# Altium footprint library Panasonic.PcbLib: 90 footprints (part 2 of 6)
Each footprint in its own frame and in the unit in brackets; x right, y up, seen from the top. Pads: shape width x height; smd on the part's side, far side on the other; paste and mask are expansions set on the pad; w line width, h text height; cw(c..) or ccw(c..) is an arc to the next point about the centre after c.
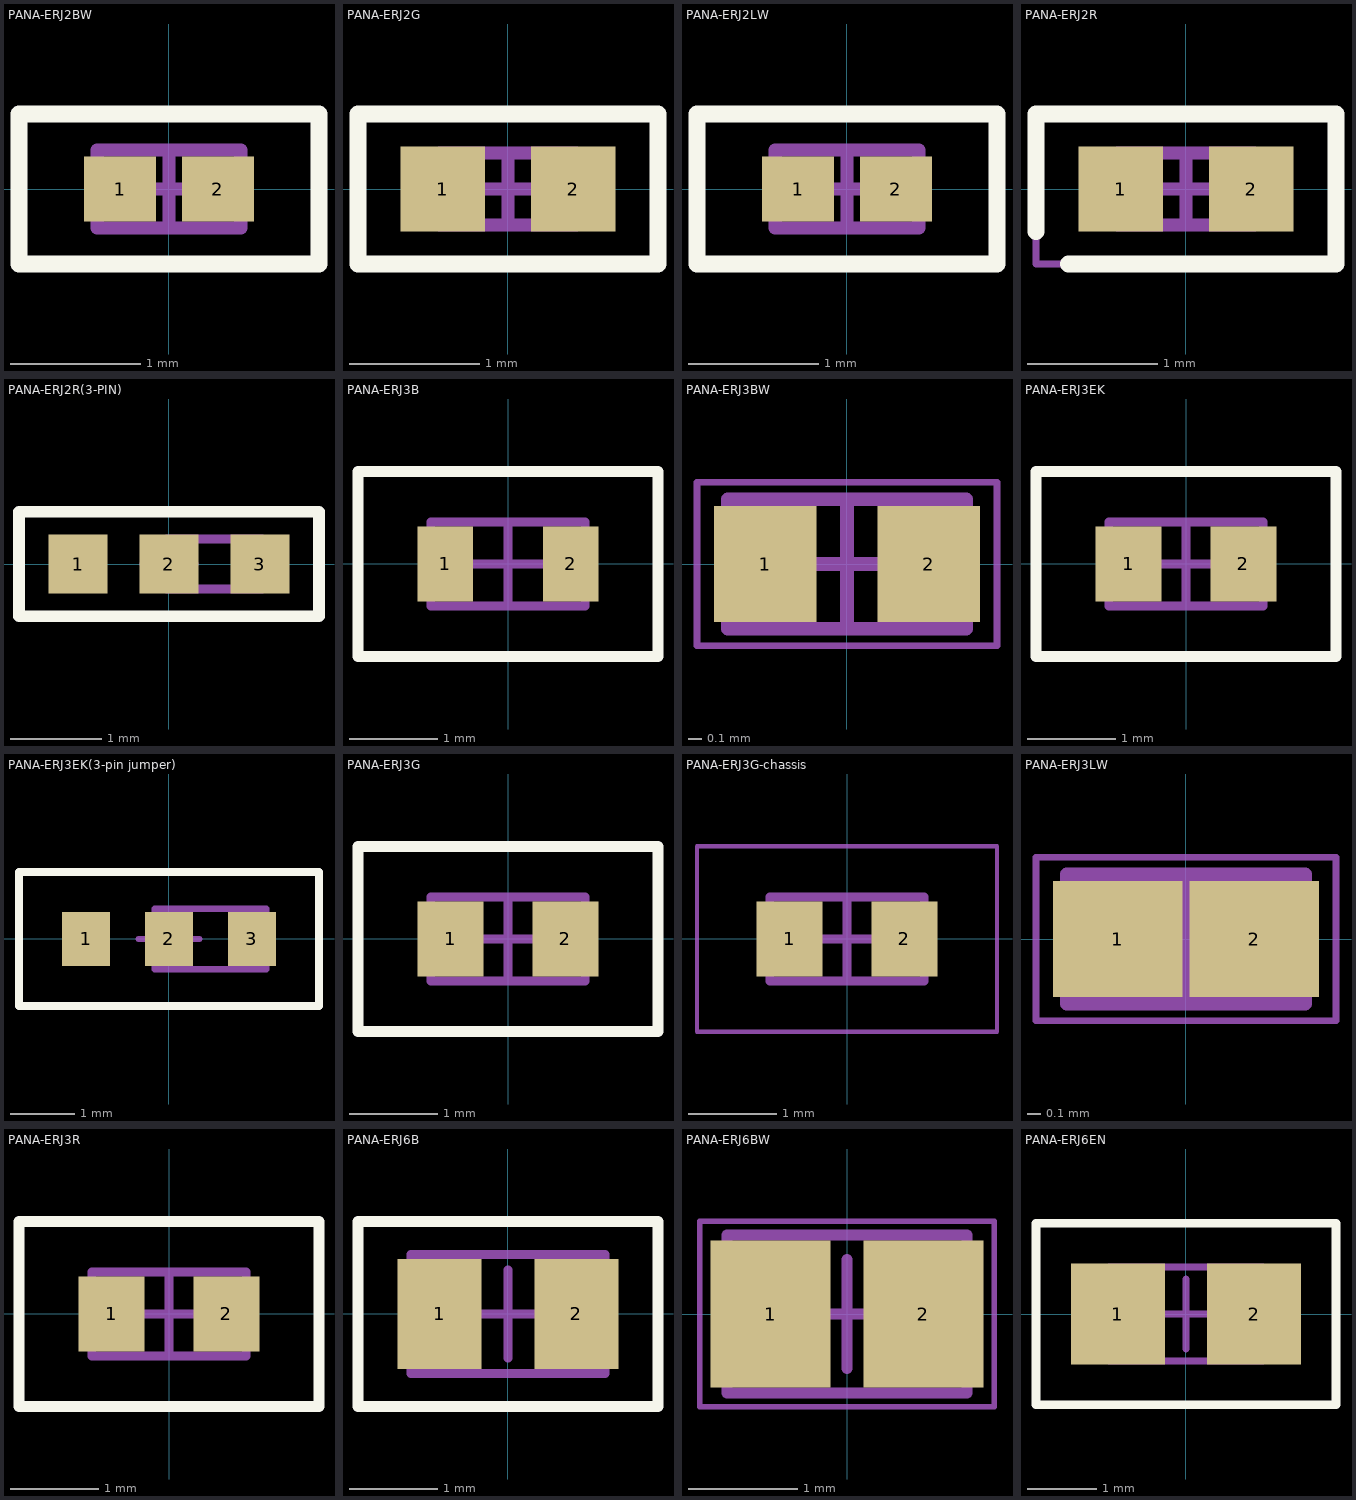
[diagram p1: the footprints below, top view; thin cyan lines are the x and y axes]

## PANA-ERJ2BW [mm] "Chip Resistor, 2-Leads, Body 1.00x0.52mm, IPC High Density"
height 0.4
pads (2):
  rect 0.55x0.5 smd: 1(-0.375,0) 2(0.375,0)
Top Overlay:
  lines w0.127: -1.15,-0.575 1.15,-0.575 1.15,0.575 -1.15,0.575 -1.15,-0.575
Assembly Top:
  lines w0.1: -0.55,-0.3 0.55,-0.3 0.55,0.3 -0.55,0.3 -0.55,-0.3
Courtyard Top:
  lines w0.05: -1.15,-0.575 -1.15,0.575 1.15,0.575 1.15,-0.575 -1.15,-0.575
  lines w0.1: -0.3,0 0.3,0 ; 0,-0.3 0,0.3
3D body: height 0.4, standoff 0, extent -0.55,-0.3 -0.31,0.3
3D body: height 0.4, standoff 0, extent -0.31,-0.3 0.31,0.3
3D body: height 0.4, standoff 0, extent 0.31,-0.3 0.55,0.3

## PANA-ERJ2G [mm] "Chip Resistor, 2-Leads, Body 1.00x0.50mm, IPC Low Density"
height 0.4
pads (2):
  rect 0.65x0.65 smd: 1(-0.5,0) 2(0.5,0)
Top Overlay:
  lines w0.127: -1.15,-0.575 1.15,-0.575 1.15,0.575 -1.15,0.575 -1.15,-0.575
Assembly Top:
  lines w0.1: -0.525,-0.275 -0.525,0.275 0.525,0.275 0.525,-0.275 -0.525,-0.275
Courtyard Top:
  lines w0.05: -1.15,-0.575 -1.15,0.575 1.15,0.575 1.15,-0.575 -1.15,-0.575
  lines w0.1: -0.275,0 0.275,0 ; 0,-0.275 0,0.275
3D body "PANA-ERJ2G2.step": height 0.4, standoff 0, extent -0.525,-0.275 0.525,0.275

## PANA-ERJ2LW [mm] "Chip Resistor, 2-Leads, Body 1.00x0.52mm, IPC High Density"
height 0.45
pads (2):
  rect 0.55x0.5 smd: 1(-0.375,0) 2(0.375,0)
Top Overlay:
  lines w0.127: -1.15,-0.575 1.15,-0.575 1.15,0.575 -1.15,0.575 -1.15,-0.575
Assembly Top:
  lines w0.1: -0.55,-0.3 0.55,-0.3 0.55,0.3 -0.55,0.3 -0.55,-0.3
Courtyard Top:
  lines w0.05: -1.15,-0.575 -1.15,0.575 1.15,0.575 1.15,-0.575 -1.15,-0.575
  lines w0.1: -0.3,0 0.3,0 ; 0,-0.3 0,0.3
3D body: height 0.45, standoff 0, extent -0.55,-0.3 -0.3,0.3
3D body: height 0.45, standoff 0, extent 0.3,-0.3 0.55,0.3
3D body: height 0.45, standoff 0, extent -0.3,-0.3 0.3,0.3

## PANA-ERJ2R [mm] "Chip Resistor, 2-Leads, Body 1.00x0.50mm, IPC Low Density"
height 0.4
pads (2):
  rect 0.65x0.65 smd: 1(-0.5,0) 2(0.5,0)
Top Overlay:
  lines w0.127: -1.15,-0.329 -1.15,0.575 1.15,0.575 1.15,-0.575 -0.904,-0.575
Assembly Top:
  lines w0.1: -0.525,-0.275 -0.525,0.275 0.525,0.275 0.525,-0.275 -0.525,-0.275
Courtyard Top:
  lines w0.05: -1.15,-0.575 -1.15,0.575 1.15,0.575 1.15,-0.575 -1.15,-0.575
  lines w0.1: -0.275,0 0.275,0 ; 0,-0.275 0,0.275
3D body "PANA-ERJ2R2.step": height 0.4, standoff 0, extent -0.525,-0.275 0.525,0.275

## PANA-ERJ2R(3-PIN) [mm] "Chip Resistor, 2-Leads, Body 1.00x0.50mm, IPC Low Density"
height 0.4
pads (3):
  rect 0.65x0.65 smd: 1(-1,0) 2(0,0) 3(1,0)
Top Overlay:
  lines w0.127: -1.65,-0.575 -1.65,0.575 1.65,0.575 1.65,-0.575 -1.65,-0.575
Assembly Top:
  lines w0.1: -0.025,-0.275 1.025,-0.275 1.025,0.275 -0.025,0.275 -0.025,-0.275
Courtyard Top:
  lines w0.05: -1.65,-0.575 -1.65,0.575 1.65,0.575 1.65,-0.575 -1.65,-0.575
  lines w0.1: -0.275,0 0.275,0 ; 0,-0.275 0,0.275
3D body "PANA-ERJ2R2.step": height 0.4, standoff 0, extent -0.025,-0.275 1.025,0.275

## PANA-ERJ3B [mm] "Chip Resistor, 2-Leads, Body 1.60x0.85mm, IPC High Density"
height 0.55
pads (2):
  rect 0.63x0.85 smd: 1(-0.71,0) 2(0.71,0)
Top Overlay:
  lines w0.127: -1.7,-1.05 -1.7,1.05 1.7,1.05 1.7,-1.05 -1.7,-1.05
Mechanical 13:
  lines w0.1: -0.875,-0.475 0.875,-0.475 0.875,0.475 -0.875,0.475 -0.875,-0.475
Mechanical 15:
  lines w0.05: -1.7,-1.05 1.7,-1.05 1.7,1.05 -1.7,1.05 -1.7,-1.05
  lines w0.1: -0.475,0 0.475,0 ; 0,-0.475 0,0.475
3D body: height 0.55, standoff 0, extent 0.575,-0.475 0.875,0.475
3D body: height 0.55, standoff 0, extent -0.875,-0.475 -0.575,0.475
3D body: height 0.55, standoff 0, extent -0.575,-0.475 0.575,0.475

## PANA-ERJ3BW [mm] "Chip Resistor, 2-Leads, Body 1.60x0.80mm, IPC High Density"
height 0.65
pads (2):
  rect 0.75x0.85 smd: 1(-0.6,0) 2(0.6,0)
Mechanical 13:
  lines w0.1: -0.875,-0.475 0.875,-0.475 0.875,0.475 -0.875,0.475 -0.875,-0.475
Mechanical 15:
  lines w0.05: -1.1,-0.6 1.1,-0.6 1.1,0.6 -1.1,0.6 -1.1,-0.6
  lines w0.1: -0.475,0 0.475,0 ; 0,-0.475 0,0.475
3D body: height 0.65, standoff 0, extent 0.475,-0.475 0.875,0.475
3D body: height 0.65, standoff 0, extent -0.875,-0.475 -0.475,0.475
3D body: height 0.65, standoff 0, extent -0.475,-0.475 0.475,0.475

## PANA-ERJ3EK [mm] "Chip Resistor, 2-Leads, Body 1.60x0.85mm, IPC High Density"
height 0.55
pads (2):
  rect 0.75x0.85 smd: 1(-0.65,0) 2(0.65,0)
Top Overlay:
  lines w0.127: -1.7,-1.05 1.7,-1.05 1.7,1.05 -1.7,1.05 -1.7,-1.05
Mechanical 13:
  lines w0.1: -0.875,-0.475 0.875,-0.475 0.875,0.475 -0.875,0.475 -0.875,-0.475
Mechanical 15:
  lines w0.05: -1.7,-1.05 -1.7,1.05 1.7,1.05 1.7,-1.05 -1.7,-1.05
  lines w0.1: -0.475,0 0.475,0 ; 0,-0.475 0,0.475
3D body: height 0.55, standoff 0, extent 0.575,-0.475 0.875,0.475
3D body: height 0.55, standoff 0, extent -0.875,-0.475 -0.575,0.475
3D body: height 0.55, standoff 0, extent -0.575,-0.475 0.575,0.475

## PANA-ERJ3EK(3-pin jumper) [mm] "Chip Resistor, 2-Leads, Body 1.60x0.85mm, IPC High Density"
height 0.55
pads (3):
  rect 0.75x0.85 smd: 1(-1.3,0) 2(0,0) 3(1.3,0)
Top Overlay:
  lines w0.127: -2.35,-1.05 2.35,-1.05 2.35,1.05 -2.35,1.05 -2.35,-1.05
Mechanical 13:
  lines w0.1: -0.225,-0.475 1.525,-0.475 1.525,0.475 -0.225,0.475 -0.225,-0.475
Mechanical 15:
  lines w0.05: -2.35,-1.05 2.35,-1.05 2.35,1.05 -2.35,1.05 -2.35,-1.05
  lines w0.1: -0.475,0 0.475,0 ; 0,-0.475 0,0.475
3D body: height 0.55, standoff 0, extent 1.225,-0.475 1.525,0.475
3D body: height 0.55, standoff 0, extent -0.225,-0.475 0.075,0.475
3D body: height 0.55, standoff 0, extent 0.075,-0.475 1.225,0.475

## PANA-ERJ3G [mm] "Chip Resistor, 2-Leads, Body 1.60x0.85mm, IPC High Density"
height 0.55
pads (2):
  rect 0.75x0.85 smd: 1(-0.65,0) 2(0.65,0)
Top Overlay:
  lines w0.127: -1.7,-1.05 -1.7,1.05 1.7,1.05 1.7,-1.05 -1.7,-1.05
Mechanical 13:
  lines w0.1: -0.875,-0.475 -0.875,0.475 0.875,0.475 0.875,-0.475 -0.875,-0.475
Mechanical 15:
  lines w0.05: -1.7,-1.05 1.7,-1.05 1.7,1.05 -1.7,1.05 -1.7,-1.05
  lines w0.1: -0.475,0 0.475,0 ; 0,-0.475 0,0.475
3D body: height 0.55, standoff 0, extent -0.575,-0.475 0.575,0.475
3D body: height 0.55, standoff 0, extent -0.875,-0.475 -0.575,0.475
3D body: height 0.55, standoff 0, extent 0.575,-0.475 0.875,0.475

## PANA-ERJ3G-chassis [mm]
pads (2):
  rect 0.75x0.85 smd: 1(-0.65,0) 2(0.65,0)
Mechanical 13:
  lines w0.1: -0.875,-0.475 -0.875,0.475 0.875,0.475 0.875,-0.475 -0.875,-0.475
Mechanical 15:
  lines w0.05: -1.7,-1.05 1.7,-1.05 1.7,1.05 -1.7,1.05 -1.7,-1.05
  lines w0.1: -0.475,0 0.475,0 ; 0,-0.475 0,0.475
3D body: height 0.55, standoff 0, extent -0.575,-0.475 0.575,0.475
3D body: height 0.55, standoff 0, extent -0.875,-0.475 -0.575,0.475
3D body: height 0.55, standoff 0, extent 0.575,-0.475 0.875,0.475

## PANA-ERJ3LW [mm] "Chip Resistor, 2-Leads, Body 1.60x0.80mm, IPC High Density"
height 0.65
pads (2):
  rect 0.95x0.85 smd: 1(-0.5,0) 2(0.5,0)
Mechanical 13:
  lines w0.1: -0.875,-0.475 0.875,-0.475 0.875,0.475 -0.875,0.475 -0.875,-0.475
Mechanical 15:
  lines w0.05: -1.1,-0.6 1.1,-0.6 1.1,0.6 -1.1,0.6 -1.1,-0.6
  lines w0.1: -0.475,0 0.475,0 ; 0,-0.475 0,0.475
3D body: height 0.65, standoff 0, extent 0.375,-0.475 0.875,0.475
3D body: height 0.65, standoff 0, extent -0.875,-0.475 -0.375,0.475
3D body: height 0.65, standoff 0, extent -0.375,-0.475 0.375,0.475

## PANA-ERJ3R [mm] "Chip Resistor, 2-Leads, Body 1.60x0.85mm, IPC High Density"
height 0.55
pads (2):
  rect 0.75x0.85 smd: 1(-0.65,0) 2(0.65,0)
Top Overlay:
  lines w0.127: -1.7,-1.05 1.7,-1.05 1.7,1.05 -1.7,1.05 -1.7,-1.05
Mechanical 13:
  lines w0.1: -0.875,-0.475 0.875,-0.475 0.875,0.475 -0.875,0.475 -0.875,-0.475
Mechanical 15:
  lines w0.05: -1.7,-1.05 -1.7,1.05 1.7,1.05 1.7,-1.05 -1.7,-1.05
  lines w0.1: -0.475,0 0.475,0 ; 0,-0.475 0,0.475
3D body: height 0.55, standoff 0, extent 0.575,-0.475 0.875,0.475
3D body: height 0.55, standoff 0, extent -0.875,-0.475 -0.575,0.475
3D body: height 0.55, standoff 0, extent -0.575,-0.475 0.575,0.475

## PANA-ERJ6B [mm] "Chip Resistor, 2-Leads, Body 2.00x1.25mm, IPC High Density"
height 0.7
pads (2):
  rect 0.95x1.25 smd: 1(-0.775,0) 2(0.775,0)
Top Overlay:
  lines w0.127: -1.7,-1.05 1.7,-1.05 1.7,1.05 -1.7,1.05 -1.7,-1.05
Mechanical 13:
  lines w0.1: -1.1,-0.675 1.1,-0.675 1.1,0.675 -1.1,0.675 -1.1,-0.675
Mechanical 15:
  lines w0.05: -1.7,-1.05 -1.7,1.05 1.7,1.05 1.7,-1.05 -1.7,-1.05
  lines w0.1: -0.5,0 0.5,0 ; 0,-0.5 0,0.5
3D body: height 0.7, standoff 0, extent 0.7,-0.675 1.1,0.675
3D body: height 0.7, standoff 0, extent -1.1,-0.675 -0.7,0.675
3D body: height 0.7, standoff 0, extent -0.7,-0.675 0.7,0.675

## PANA-ERJ6BW [mm] "Chip Resistor, 2-Leads, Body 2.00x1.25mm, IPC High Density"
height 0.75
pads (2):
  rect 1.1x1.35 smd: 1(-0.7,0) 2(0.7,0)
Mechanical 13:
  lines w0.1: -1.1,-0.725 -1.1,0.725 1.1,0.725 1.1,-0.725 -1.1,-0.725
Mechanical 15:
  lines w0.05: -1.35,-0.85 -1.35,0.85 1.35,0.85 1.35,-0.85 -1.35,-0.85
  lines w0.1: -0.5,0 0.5,0 ; 0,-0.5 0,0.5
3D body: height 0.75, standoff 0, extent -0.55,-0.725 0.55,0.725
3D body: height 0.75, standoff 0, extent -1.1,-0.725 -0.55,0.725
3D body: height 0.75, standoff 0, extent 0.55,-0.725 1.1,0.725

## PANA-ERJ6EN [mm] "Chip Resistor, 2-Leads, Body 2.00x1.25mm, IPC High Density"
height 0.7
pads (2):
  rect 1.35x1.45 smd: 1(-0.975,0) 2(0.975,0)
Top Overlay:
  lines w0.127: -2.15,-1.3 -2.15,1.3 2.15,1.3 2.15,-1.3 -2.15,-1.3
Assembly Top:
  lines w0.1: -1.1,-0.675 1.1,-0.675 1.1,0.675 -1.1,0.675 -1.1,-0.675
Courtyard Top:
  lines w0.1: -0.5,0 0.5,0 ; 0,-0.5 0,0.5
Mechanical 15:
  lines w0.05: -2.15,-1.3 2.15,-1.3 2.15,1.3 -2.15,1.3 -2.15,-1.3
3D body "PANA-ERJ6EN_new.step": height 0.7, standoff 0, extent -1.1,-0.675 1.1,0.675